# EAGLE library part 93LC86BT-I/OT (library Microchip_By_element14_Batch_1)
16K Microwire Compatible Serial EEPROM
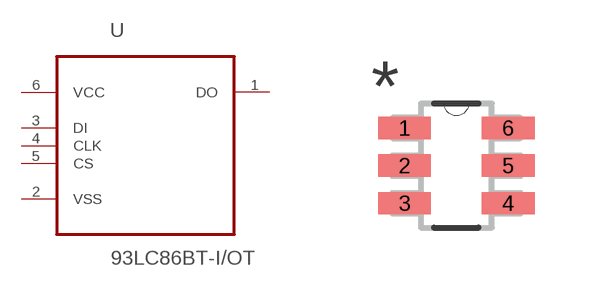
[diagram p268: symbol with the pads of SOT95P270X145-6N; footprint SOT95P270X145-6N]

Designator prefix -

## 93LC86BT-I/OT (MPN: 93LC86BT-I/OT; OC_FARNELL: 1556172; OC_NEWARK: 95M3421; PACKAGE: SOT-6; SUPPLIER: Microchip)  [SOT95P270X145-6N]
1  DO  out
2  VSS  pwr
3  DI  in
4  CLK  in
5  CS  in
6  VCC  pwr

## Footprint SOT95P270X145-6N (pad centres in mm)
smd 1.321 x 0.559: 1 -1.295,0.94; 2 -1.295,0; 3 -1.295,-0.94; 4 1.295,-0.94; 5 1.295,0; 6 1.295,0.94